# Altium integrated library NSC MiscPower.IntLib: 742 symbols (part 14 of 19)
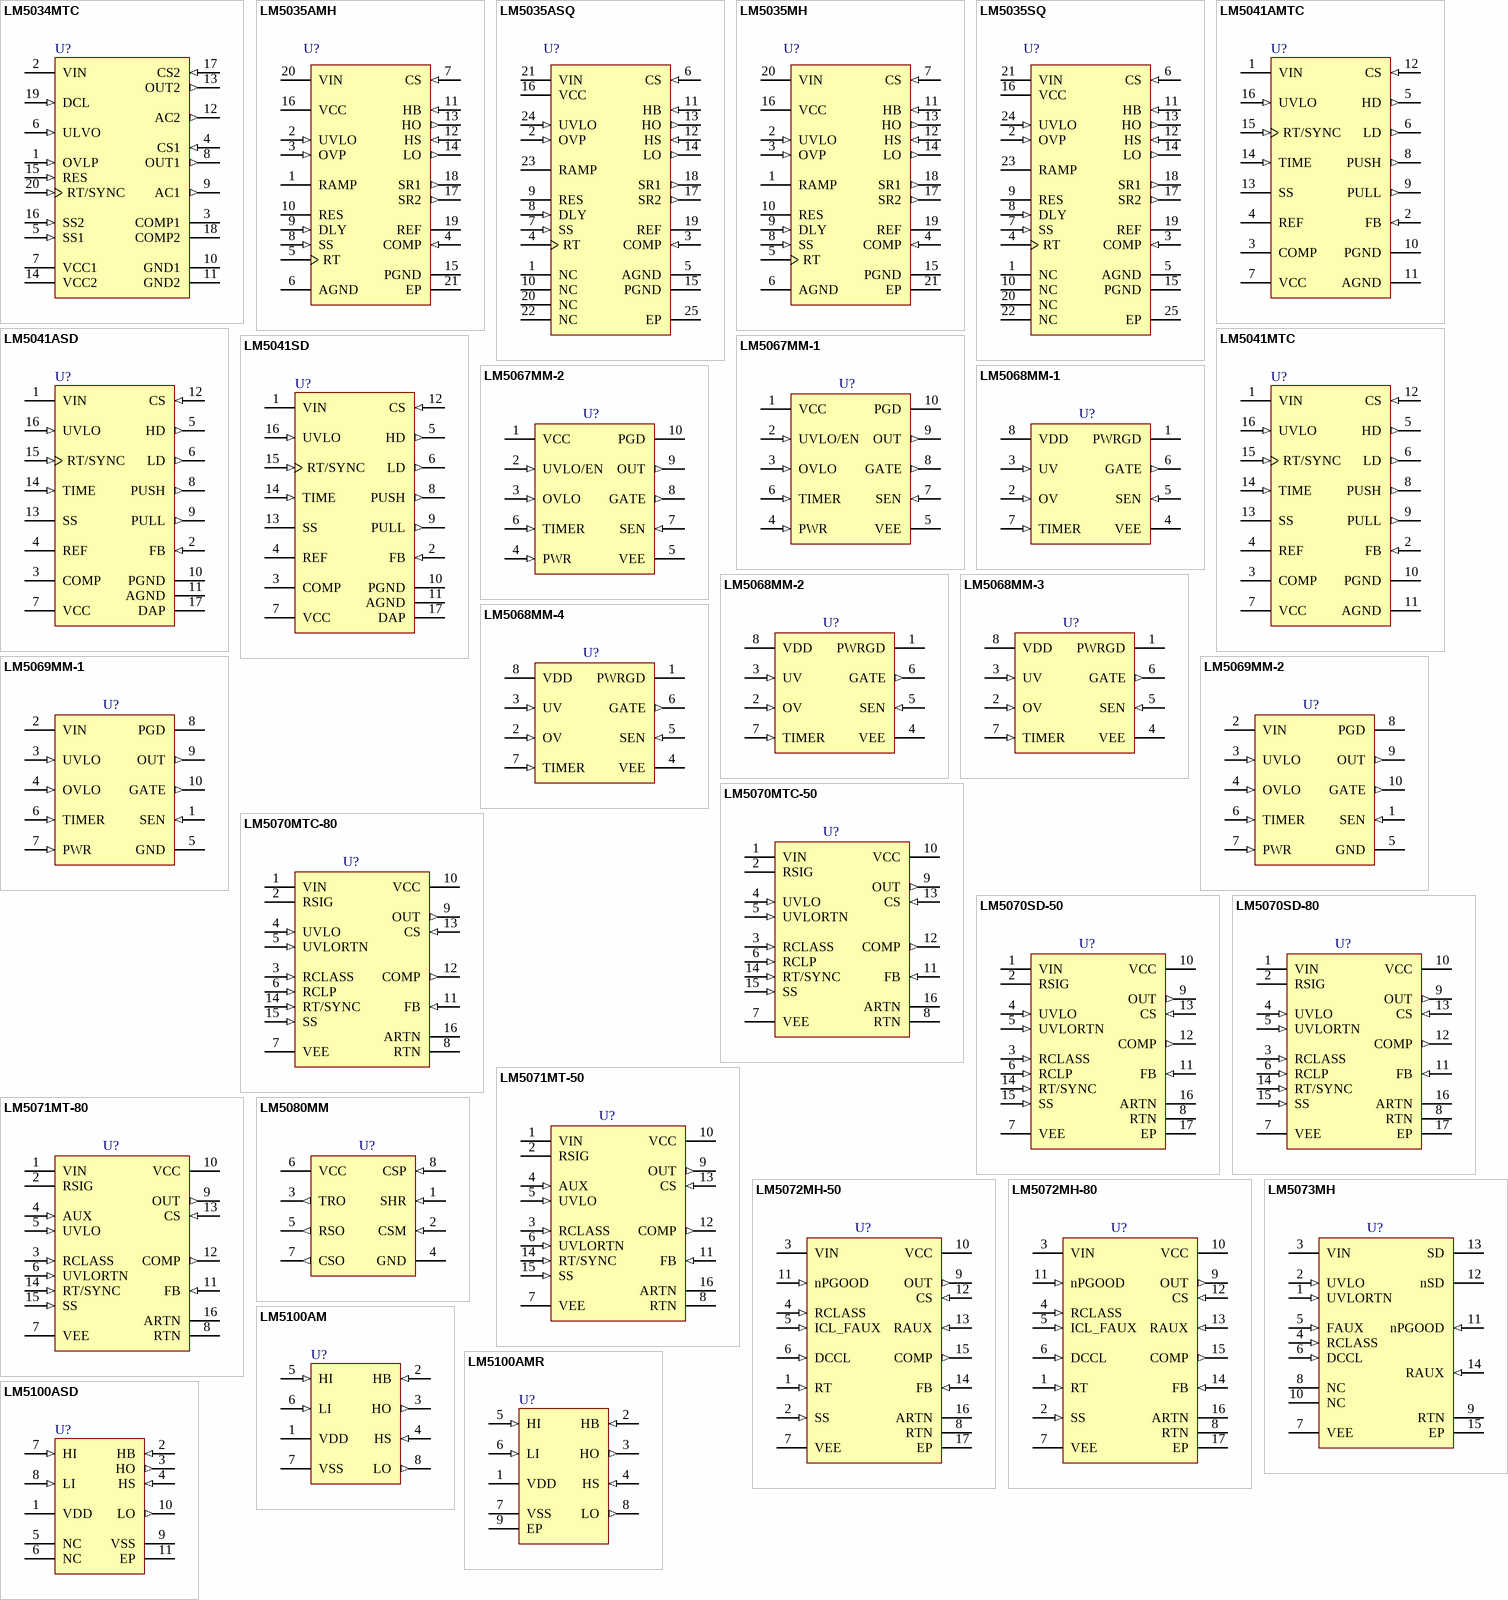
[diagram p38: symbols LM5034MTC to LM5100ASD]

## LM5072MH-50
designator U?
Integrated 100V Power Over Ethernet PD Interface and PWM Controller with Aux Support; PartNumber: LM5072MH-50; Manufacturer: National Semiconductor; CompType: MiscPower; PackageTopMarking: NSUZXYTT*LM5072*MH-50; PowerWise: Y; FirstPublished: 4-Dec-2008; DatasheetVersion: Oct-2007; PackageVersion: revA, Apr-2003; PackageReference: MXA16A; Publisher: Altium Limited; PackageDescription: Molded TSSOP, Jedec, Exposed Pad, 5.0 x 4.4 x 0.9mm Body,16 Lead, 0.65mm Pitch; RoHS: Y; PinCount: 16; DigiKeyPartNumber: LM5072MH-50-ND; Code_JEDEC: MO-153-ABT; ComponentLink1Description: LM5072 Datasheet; ComponentLink1URL: http://www.national.com/ds/LM/LM5072.pdf; ComponentLink2Description: LM5072 Web Page; ComponentLink2URL: http://www.national.com/pf/LM/LM5072.html; ComponentLink3Description: MXA16A Package Page; ComponentLink3URL: http://www.national.com/packaging/folders/mxa16a.html
footprint MXA16A_N (TSOP, 16-Leads, Body 5x4.4mm, Pitch 0.65mm, Exposed Pad, IPC Medium Density)
footprint MXA16A_L (TSOP, 16-Leads, Body 5x4.4mm, Pitch 0.65mm, Exposed Pad, IPC High Density)
footprint MXA16A_M (TSOP, 16-Leads, Body 5x4.4mm, Pitch 0.65mm, Exposed Pad, IPC Low Density)
pins: 1 RT (in) "PWM controller oscillator frequency programming pin.", 2 SS (in) "Soft-start programming pin.", 3 VIN (power) "Positive supply pin for the PD interface and the internal PWM controller start-up regulator.", 4 RCLASS (in) "PD classification programming pin.", 5 ICL_FAUX (in) "Inrush current limit programming pin; also the front auxiliary power enable pin.", 6 DCCL (in) "PD interface DC current limit programming pin.", 7 VEE (power) "Negative supply pin for PD interface; connected to PoE and/or front auxiliary power return path.", 8 RTN (power) "PWM controller power return.", 9 OUT (out) "PWM controller gate driver output pin.", 10 VCC (power) "PWM controller start-up regulator output pin.", 11 nPGOOD (in) "PD interface Power Good indicator and delay timer pin; active low state indicates PoE interface is in normal operation.", 12 CS (in) "PWM controller current sense input pin.", 13 RAUX (in) "Rear auxiliary power enable pin; can be programmed for auxiliary power dominance over PoE power.", 14 FB (in) "PWM controller voltage feedback pin and inverting input of the internal error amplifier.", 15 COMP (out) "Output of the internal error amplifier and control input to the PWM comparator.", 16 ARTN (power) "PWM controller reference ground pin.", 17 EP (power) "Exposed metal pad on the underside of the device."

## LM5072MH-80
designator U?
Integrated 100V Power Over Ethernet PD Interface and PWM Controller with Aux Support; PartNumber: LM5072MH-80; Manufacturer: National Semiconductor; CompType: MiscPower; PackageTopMarking: NSUZXYTT*LM5072*MH-80; PowerWise: Y; FirstPublished: 4-Dec-2008; DatasheetVersion: Oct-2007; PackageVersion: revA, Apr-2003; PackageReference: MXA16A; Publisher: Altium Limited; PackageDescription: Molded TSSOP, Jedec, Exposed Pad, 5.0 x 4.4 x 0.9mm Body,16 Lead, 0.65mm Pitch; RoHS: O; PinCount: 16; DigiKeyPartNumber: LM5072MH-80-ND; Code_JEDEC: MO-153-ABT; ComponentLink1Description: LM5072 Datasheet; ComponentLink1URL: http://www.national.com/ds/LM/LM5072.pdf; ComponentLink2Description: LM5072 Web Page; ComponentLink2URL: http://www.national.com/pf/LM/LM5072.html; ComponentLink3Description: MXA16A Package Page; ComponentLink3URL: http://www.national.com/packaging/folders/mxa16a.html
footprint MXA16A_N (TSOP, 16-Leads, Body 5x4.4mm, Pitch 0.65mm, Exposed Pad, IPC Medium Density)
footprint MXA16A_L (TSOP, 16-Leads, Body 5x4.4mm, Pitch 0.65mm, Exposed Pad, IPC High Density)
footprint MXA16A_M (TSOP, 16-Leads, Body 5x4.4mm, Pitch 0.65mm, Exposed Pad, IPC Low Density)
pins: 1 RT (in) "PWM controller oscillator frequency programming pin.", 2 SS (in) "Soft-start programming pin.", 3 VIN (power) "Positive supply pin for the PD interface and the internal PWM controller start-up regulator.", 4 RCLASS (in) "PD classification programming pin.", 5 ICL_FAUX (in) "Inrush current limit programming pin; also the front auxiliary power enable pin.", 6 DCCL (in) "PD interface DC current limit programming pin.", 7 VEE (power) "Negative supply pin for PD interface; connected to PoE and/or front auxiliary power return path.", 8 RTN (power) "PWM controller power return.", 9 OUT (out) "PWM controller gate driver output pin.", 10 VCC (power) "PWM controller start-up regulator output pin.", 11 nPGOOD (in) "PD interface Power Good indicator and delay timer pin; active low state indicates PoE interface is in normal operation.", 12 CS (in) "PWM controller current sense input pin.", 13 RAUX (in) "Rear auxiliary power enable pin; can be programmed for auxiliary power dominance over PoE power.", 14 FB (in) "PWM controller voltage feedback pin and inverting input of the internal error amplifier.", 15 COMP (out) "Output of the internal error amplifier and control input to the PWM comparator.", 16 ARTN (power) "PWM controller reference ground pin.", 17 EP (power) "Exposed metal pad on the underside of the device."

## LM5073MH
designator U?
100V Power Over Ethernet PD Interface with Aux Support; PartNumber: LM5073MH; Manufacturer: National Semiconductor; CompType: MiscPower; PackageTopMarking: NSUZXYTT*LM5073*MH; PowerWise: Y; FirstPublished: 4-Dec-2008; DatasheetVersion: Mar-2007; PackageVersion: revA, Feb-2003; PackageReference: MXA14A; Publisher: Altium Limited; PackageDescription: Molded TSSOP, JEDEC, Exposed Pad, 5.0 x 4.4 x 0.9mm Body, 14 Lead, 0.65mm Pitch; RoHS: Y; PinCount: 14; DigiKeyPartNumber: LM5073MH-ND; Code_JEDEC: MO-153-ABT-1; ComponentLink1Description: LM5073 Datasheet; ComponentLink1URL: http://www.national.com/ds/LM/LM5073.pdf; ComponentLink2Description: LM5073 Web Page; ComponentLink2URL: http://www.national.com/pf/LM/LM5073.html; ComponentLink3Description: MXA14A Package Page; ComponentLink3URL: http://www.national.com/packaging/folders/mxa14a.html
footprint MXA14A_N (TSOP, 14-Leads, Body 5x4.4mm, Pitch 0.65mm, Exposed Pad, IPC Medium Density)
footprint MXA14A_L (TSOP, 14-Leads, Body 5x4.4mm, Pitch 0.65mm, Exposed Pad, IPC High Density)
footprint MXA14A_M (TSOP, 14-Leads, Body 5x4.4mm, Pitch 0.65mm, Exposed Pad, IPC Low Density)
pins: 1 UVLORTN (in) "Return for the external UVLO programming resistor divider.", 2 UVLO (in) "Line under-voltage lockout programming pin.", 3 VIN (power) "Positive supply pin for the PD interface and the DC-DC converter interface.", 4 RCLASS (in) "PD classification programming pin.", 5 FAUX (in) "Front auxiliary power enable pin.", 6 DCCL (in) "PD interface DC current limit programming pin.", 7 VEE (power) "Negative supply pin for PD interface; connected to PoE and/or front auxiliary power return path.", 8 NC "No internal connection.", 9 RTN (power) "DC-DC converter power return.", 10 NC "No internal connection.", 11 nPGOOD (in) "PD interface Power Good indicator and delay timer pin.", 12 nSD (oc) "Open drain, active low shut down signal to the DC-DC converter.", 13 SD (oc) "Open drain, active high shut down signal to the DC-DC converter.", 14 RAUX (in) "Rear auxiliary power enable pin, and dominant/non-dominant selection.", 15 EP (power) "Exposed metal pad on the underside of the device."

## LM5080MM
designator U?
Modular Current Sharing Controller; PartNumber: LM5080MM; Manufacturer: National Semiconductor; CompType: MiscPower; PackageTopMarking: ZXTT*SHUB; PowerWise: N; FirstPublished: 4-Dec-2008; DatasheetVersion: Jan-2006; PackageVersion: revF, Apr-2008; PackageReference: MUA08A; Publisher: Altium Limited; PackageDescription: MINI SOIC, .118 x .118 x .034in, 8 Lead, .0256in Pitch; RoHS: Y; PinCount: 8; DigiKeyPartNumber: LM5080MMCT-ND; Code_JEDEC: MO-187-AA; ComponentLink1Description: LM5080 Datasheet; ComponentLink1URL: http://www.national.com/ds/LM/LM5080.pdf; ComponentLink2Description: LM5080 Web Page; ComponentLink2URL: http://www.national.com/pf/LM/LM5080.html; ComponentLink3Description: MUA08A Package Page; ComponentLink3URL: http://www.national.com/packaging/folders/mua08a.html
footprint MUA08A_N (TSOP, 8-Leads, Body 3x3mm, Pitch 0.65mm, IPC Medium Density)
footprint MUA08A_L (TSOP, 8-Leads, Body 3x3mm, Pitch 0.65mm, IPC High Density)
footprint MUA08A_M (TSOP, 8-Leads, Body 3x3mm, Pitch 0.65mm, IPC Low Density)
pins: 1 SHR (in), 2 CSM (in), 3 TRO (out), 4 GND (power), 5 RSO (out), 6 VCC (power), 7 CSO (out), 8 CSP (in)

## LM5100AM
designator U?
3A High Voltage High-Side and Low-Side Gate Driver; PartNumber: LM5100AM; Manufacturer: National Semiconductor; CompType: MiscPower; PackageTopMarking: NSZXTT*L5100*AM; PowerWise: N; FirstPublished: 4-Dec-2008; DatasheetVersion: Jun-2009; PackageVersion: revL, Sep-2006; PackageReference: M08A; Publisher: Altium Limited; PackageDescription: SOIC Narrow, 4.9 x 3.9 x 1.45mm, 8 Lead, 1.27mm Pitch; RoHS: Y; PinCount: 8; DigiKeyPartNumber: LM5100AM-ND; Code_JEDEC: MS-012-AA; Code_IPC: SOIC127P600-8; ComponentLink1Description: LM5100A Datasheet; ComponentLink1URL: http://www.national.com/ds/LM/LM5100A.pdf; ComponentLink2Description: LM5100A Web Page; ComponentLink2URL: http://www.national.com/pf/LM/LM5100A.html; ComponentLink3Description: M08A Package Page; ComponentLink3URL: http://www.national.com/packaging/folders/m08a.html
footprint M08A_N (SOIC, 8-Leads, Body 4.9x3.9mm, Pitch 1.27mm, IPC Medium Density)
footprint M08A_L (SOIC, 8-Leads, Body 4.9x3.9mm, Pitch 1.27mm, IPC High Density)
footprint M08A_M (SOIC, 8-Leads, Body 4.9x3.9mm, Pitch 1.27mm, IPC Low Density)
pins: 1 VDD (power), 2 HB (in), 3 HO (out), 4 HS (in), 5 HI (in), 6 LI (in), 7 VSS (power), 8 LO (out)

## LM5100AMR
designator U?
3A High Voltage High-Side and Low-Side Gate Driver; PartNumber: LM5100AMR; Manufacturer: National Semiconductor; CompType: MiscPower; PackageTopMarking: NSXYTT*L5100*AMR; PowerWise: N; FirstPublished: 29-May-2009; DatasheetVersion: Jun-2009; PackageVersion: revD, Dec-2007; PackageReference: MRA08A; Publisher: Altium Limited; PackageDescription: Molded, PSOP .193 x .154 x .058in, 8 Lead, .050in Pitch; RoHS: Y; PinCount: 8; Code_JEDEC: MS-012-AA; ComponentLink1Description: LM5100A Datasheet; ComponentLink1URL: http://www.national.com/ds/LM/LM5100A.pdf; ComponentLink2Description: LM5100A Web Page; ComponentLink2URL: http://www.national.com/pf/LM/LM5100A.html; ComponentLink3Description: MRA08A Package Page; ComponentLink3URL: http://www.national.com/packaging/folders/mra08a.html
footprint MRA08A_N (SOIC, 8-Leads, Body 4.9x3.9mm, Pitch 1.27mm, Exposed Pad, IPC Medium Density)
footprint MRA08A_L (SOIC, 8-Leads, Body 4.9x3.9mm, Pitch 1.27mm, Exposed Pad, IPC High Density)
footprint MRA08A_M (SOIC, 8-Leads, Body 4.9x3.9mm, Pitch 1.27mm, Exposed Pad, IPC Low Density)
pins: 1 VDD (power), 2 HB (in), 3 HO (out), 4 HS (in), 5 HI (in), 6 LI (in), 7 VSS (power), 8 LO (out), 9 EP (power)

## LM5100ASD
designator U?
3A High Voltage High-Side and Low-Side Gate Driver; PartNumber: LM5100ASD; Manufacturer: National Semiconductor; CompType: MiscPower; PackageTopMarking: NS*UZXYTT*5100ASD; PowerWise: N; FirstPublished: 4-Dec-2008; DatasheetVersion: Jun-2009; PackageVersion: revA, May-2003; PackageReference: SDC10A; Publisher: Altium Limited; PackageDescription: LLP, Plastic, Dual, 4 x 4 x 0.8mm Body, 10 Lead, 0.8mm Pitch, No Pullback; RoHS: Y; PinCount: 10; DigiKeyPartNumber: LM5100ASDCT-ND; ComponentLink1Description: LM5100A Datasheet; ComponentLink1URL: http://www.national.com/ds/LM/LM5100A.pdf; ComponentLink2Description: LM5100A Web Page; ComponentLink2URL: http://www.national.com/pf/LM/LM5100A.html; ComponentLink3Description: SDC10A Package Page; ComponentLink3URL: http://www.national.com/packaging/folders/sdc10a.html
footprint SDC10A (SON, 10-Leads, Body 4x4 mm, Pitch 0.8mm, NSC Recommended)
pins: 1 VDD (power), 2 HB (in), 3 HO (out), 4 HS (in), 5 NC, 6 NC, 7 HI (in), 8 LI (in), 9 VSS (power), 10 LO (out), 11 EP (power)

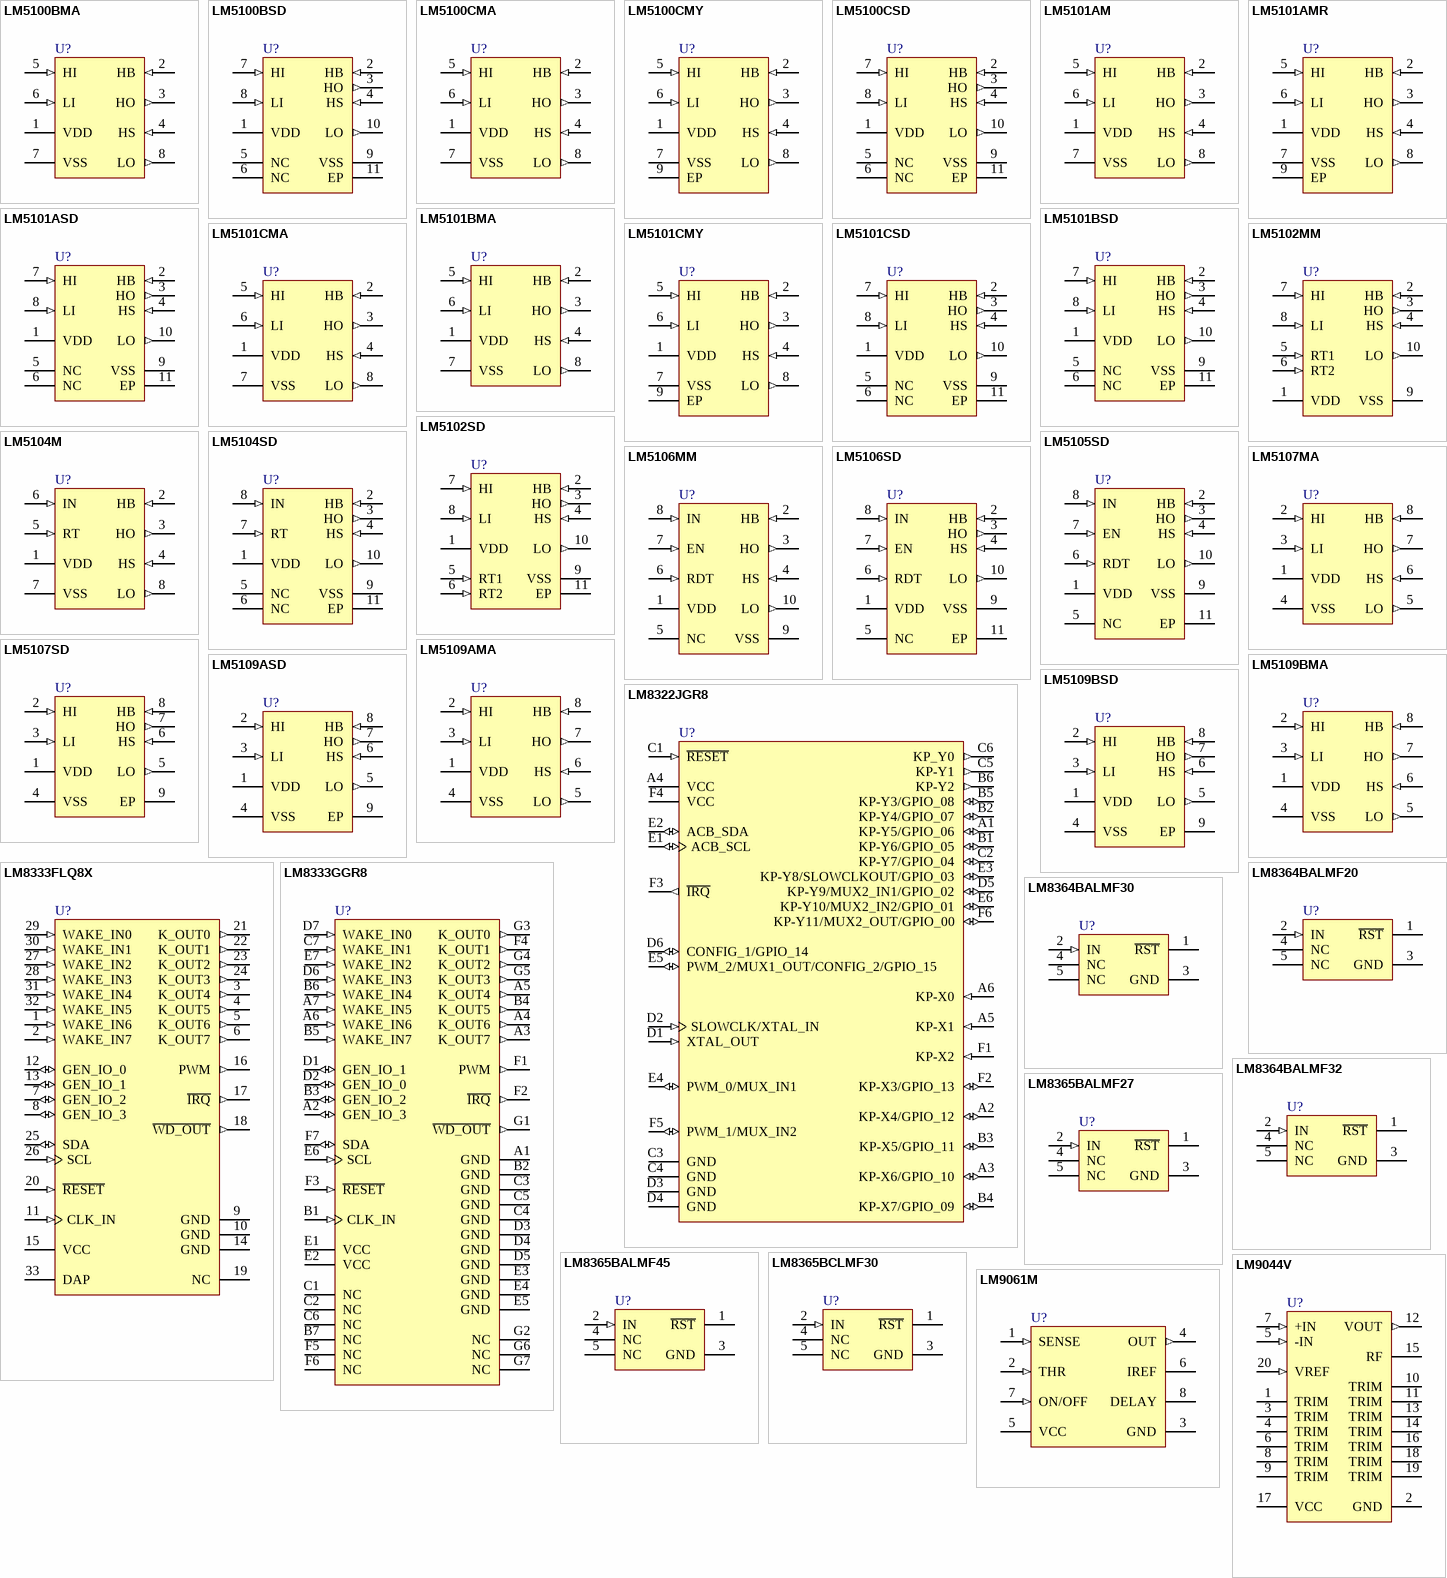
[diagram p16: symbols LM5100BMA to LM9061M]

## LM5100BMA
designator U?
2A High Voltage High-Side and Low-Side Gate Driver; PartNumber: LM5100BMA; Manufacturer: National Semiconductor; CompType: MiscPower; PackageTopMarking: NSZXTT*L5100*BMA; PowerWise: N; FirstPublished: 4-Dec-2008; DatasheetVersion: Nov-2006; PackageVersion: revL, Sep-2006; PackageReference: M08A; Publisher: Altium Limited; PackageDescription: SOIC Narrow, 4.9 x 3.9 x 1.45mm, 8 Lead, 1.27mm Pitch; RoHS: Y; PinCount: 8; DigiKeyPartNumber: LM5100BMA-ND; Code_JEDEC: MS-012-AA; Code_IPC: SOIC127P600-8; ComponentLink1Description: LM5100B Datasheet; ComponentLink1URL: http://www.national.com/ds/LM/LM5100B.pdf; ComponentLink2Description: LM5100B Web Page; ComponentLink2URL: http://www.national.com/pf/LM/LM5100B.html; ComponentLink3Description: M08A Package Page; ComponentLink3URL: http://www.national.com/packaging/folders/m08a.html
footprint M08A_N (SOIC, 8-Leads, Body 4.9x3.9mm, Pitch 1.27mm, IPC Medium Density)
footprint M08A_L (SOIC, 8-Leads, Body 4.9x3.9mm, Pitch 1.27mm, IPC High Density)
footprint M08A_M (SOIC, 8-Leads, Body 4.9x3.9mm, Pitch 1.27mm, IPC Low Density)
pins: 1 VDD (power), 2 HB (in), 3 HO (out), 4 HS (in), 5 HI (in), 6 LI (in), 7 VSS (power), 8 LO (out)

## LM5100BSD
designator U?
2A High Voltage High-Side and Low-Side Gate Driver; PartNumber: LM5100BSD; Manufacturer: National Semiconductor; CompType: MiscPower; PackageTopMarking: NS*UZXYTT*5100BSD; PowerWise: N; FirstPublished: 4-Dec-2008; DatasheetVersion: Nov-2006; PackageVersion: revA, May-2003; PackageReference: SDC10A; Publisher: Altium Limited; PackageDescription: LLP, Plastic, Dual, 4 x 4 x 0.8mm Body, 10 Lead, 0.8mm Pitch, No Pullback; RoHS: Y; PinCount: 10; DigiKeyPartNumber: LM5100BSDCT-ND; ComponentLink1Description: LM5100B Datasheet; ComponentLink1URL: http://www.national.com/ds/LM/LM5100B.pdf; ComponentLink2Description: LM5100B Web Page; ComponentLink2URL: http://www.national.com/pf/LM/LM5100B.html; ComponentLink3Description: SDC10A Package Page; ComponentLink3URL: http://www.national.com/packaging/folders/sdc10a.html
footprint SDC10A (SON, 10-Leads, Body 4x4 mm, Pitch 0.8mm, NSC Recommended)
pins: 1 VDD (power), 2 HB (in), 3 HO (out), 4 HS (in), 5 NC, 6 NC, 7 HI (in), 8 LI (in), 9 VSS (power), 10 LO (out), 11 EP (power)

## LM5100CMA
designator U?
1A High Voltage High-Side and Low-Side Gate Driver; PartNumber: LM5100CMA; Manufacturer: National Semiconductor; CompType: MiscPower; PackageTopMarking: NSZXTT*L5100*CMA; PowerWise: N; FirstPublished: 4-Dec-2008; DatasheetVersion: Nov-2006; PackageVersion: revL, Sep-2006; PackageReference: M08A; Publisher: Altium Limited; PackageDescription: SOIC Narrow, 4.9 x 3.9 x 1.45mm, 8 Lead, 1.27mm Pitch; RoHS: Y; PinCount: 8; DigiKeyPartNumber: LM5100CMA-ND; Code_JEDEC: MS-012-AA; Code_IPC: SOIC127P600-8; ComponentLink1Description: LM5100C Datasheet; ComponentLink1URL: http://www.national.com/ds/LM/LM5100C.pdf; ComponentLink2Description: LM5100C Web Page; ComponentLink2URL: http://www.national.com/pf/LM/LM5100C.html; ComponentLink3Description: M08A Package Page; ComponentLink3URL: http://www.national.com/packaging/folders/m08a.html
footprint M08A_N (SOIC, 8-Leads, Body 4.9x3.9mm, Pitch 1.27mm, IPC Medium Density)
footprint M08A_L (SOIC, 8-Leads, Body 4.9x3.9mm, Pitch 1.27mm, IPC High Density)
footprint M08A_M (SOIC, 8-Leads, Body 4.9x3.9mm, Pitch 1.27mm, IPC Low Density)
pins: 1 VDD (power), 2 HB (in), 3 HO (out), 4 HS (in), 5 HI (in), 6 LI (in), 7 VSS (power), 8 LO (out)

## LM5100CMY
designator U?
1A High Voltage High-Side and Low-Side Gate Driver; PartNumber: LM5100CMY; Manufacturer: National Semiconductor; CompType: MiscPower; PackageTopMarking: ZXTT*SXCB; PowerWise: N; FirstPublished: 9-Oct-2009; DatasheetVersion: Jun-2009; PackageVersion: revA, Nov-2003; PackageReference: MUY08A; Publisher: Altium Limited; PackageDescription: Molded Mini-SO, Exposed Pad, .118 x .118 x .034in Body, 8 Lead, .0256in Pitch; RoHS: Y; PinCount: 8; DigiKeyPartNumber: LM5100CMYCT-ND; Code_JEDEC: MO-187-AA; ComponentLink1Description: LM5100C Datasheet; ComponentLink1URL: http://www.national.com/ds/LM/LM5100C.pdf; ComponentLink2Description: LM5100C Web Page; ComponentLink2URL: http://www.national.com/pf/LM/LM5100C.html; ComponentLink3Description: MUY08A Package Page; ComponentLink3URL: http://www.national.com/packaging/folders/muy08a.html
footprint MUY08A_N (TSOP, 8-Leads, Body 3x3mm, Pitch 0.65mm, Exposed Pad, IPC Medium Density)
footprint MUY08A_L (TSOP, 8-Leads, Body 3x3mm, Pitch 0.65mm, Exposed Pad, IPC High Density)
footprint MUY08A_M (TSOP, 8-Leads, Body 3x3mm, Pitch 0.65mm, Exposed Pad, IPC Low Density)
pins: 1 VDD (power), 2 HB (in), 3 HO (out), 4 HS (in), 5 HI (in), 6 LI (in), 7 VSS (power), 8 LO (out), 9 EP (power)

## LM5100CSD
designator U?
1A High Voltage High-Side and Low-Side Gate Driver; PartNumber: LM5100CSD; Manufacturer: National Semiconductor; CompType: MiscPower; PackageTopMarking: NS*UZXYTT*5100CSD; PowerWise: N; FirstPublished: 4-Dec-2008; DatasheetVersion: Nov-2006; PackageVersion: revA, May-2003; PackageReference: SDC10A; Publisher: Altium Limited; PackageDescription: LLP, Plastic, Dual, 4 x 4 x 0.8mm Body, 10 Lead, 0.8mm Pitch, No Pullback; RoHS: Y; PinCount: 10; DigiKeyPartNumber: LM5100CSDCT-ND; ComponentLink1Description: LM5100C Datasheet; ComponentLink1URL: http://www.national.com/ds/LM/LM5100C.pdf; ComponentLink2Description: LM5100C Web Page; ComponentLink2URL: http://www.national.com/pf/LM/LM5100C.html; ComponentLink3Description: SDC10A Package Page; ComponentLink3URL: http://www.national.com/packaging/folders/sdc10a.html
footprint SDC10A (SON, 10-Leads, Body 4x4 mm, Pitch 0.8mm, NSC Recommended)
pins: 1 VDD (power), 2 HB (in), 3 HO (out), 4 HS (in), 5 NC, 6 NC, 7 HI (in), 8 LI (in), 9 VSS (power), 10 LO (out), 11 EP (power)

## LM5101AM
designator U?
3A High Voltage High-Side and Low-Side Gate Driver; PartNumber: LM5101AM; Manufacturer: National Semiconductor; CompType: MiscPower; PackageTopMarking: NSZXTT*L5101*AM; PowerWise: N; FirstPublished: 4-Dec-2008; DatasheetVersion: Jun-2009; PackageVersion: revL, Sep-2006; PackageReference: M08A; Publisher: Altium Limited; PackageDescription: SOIC Narrow, 4.9 x 3.9 x 1.45mm, 8 Lead, 1.27mm Pitch; RoHS: Y; PinCount: 8; DigiKeyPartNumber: LM5101AM-ND; Code_JEDEC: MS-012-AA; Code_IPC: SOIC127P600-8; ComponentLink1Description: LM5101A Datasheet; ComponentLink1URL: http://www.national.com/ds/LM/LM5100A.pdf; ComponentLink2Description: LM5101A Web Page; ComponentLink2URL: http://www.national.com/pf/LM/LM5101A.html; ComponentLink3Description: M08A Package Page; ComponentLink3URL: http://www.national.com/packaging/folders/m08a.html
footprint M08A_N (SOIC, 8-Leads, Body 4.9x3.9mm, Pitch 1.27mm, IPC Medium Density)
footprint M08A_L (SOIC, 8-Leads, Body 4.9x3.9mm, Pitch 1.27mm, IPC High Density)
footprint M08A_M (SOIC, 8-Leads, Body 4.9x3.9mm, Pitch 1.27mm, IPC Low Density)
pins: 1 VDD (power), 2 HB (in), 3 HO (out), 4 HS (in), 5 HI (in), 6 LI (in), 7 VSS (power), 8 LO (out)

## LM5101AMR
designator U?
3A High Voltage High-Side and Low-Side Gate Driver; PartNumber: LM5101AMR; Manufacturer: National Semiconductor; CompType: MiscPower; PackageTopMarking: NSXYTT*L5101*AMR; PowerWise: N; FirstPublished: 29-May-2009; DatasheetVersion: Jun-2009; PackageVersion: revD, Dec-2007; PackageReference: MRA08A; Publisher: Altium Limited; PackageDescription: Molded, PSOP .193 x .154 x .058in, 8 Lead, .050in Pitch; RoHS: Y; PinCount: 8; Code_JEDEC: MS-012-AA; ComponentLink1Description: LM5101A Datasheet; ComponentLink1URL: http://www.national.com/ds/LM/LM5100A.pdf; ComponentLink2Description: LM5101A Web Page; ComponentLink2URL: http://www.national.com/pf/LM/LM5101A.html; ComponentLink3Description: MRA08A Package Page; ComponentLink3URL: http://www.national.com/packaging/folders/mra08a.html
footprint MRA08A_N (SOIC, 8-Leads, Body 4.9x3.9mm, Pitch 1.27mm, Exposed Pad, IPC Medium Density)
footprint MRA08A_L (SOIC, 8-Leads, Body 4.9x3.9mm, Pitch 1.27mm, Exposed Pad, IPC High Density)
footprint MRA08A_M (SOIC, 8-Leads, Body 4.9x3.9mm, Pitch 1.27mm, Exposed Pad, IPC Low Density)
pins: 1 VDD (power), 2 HB (in), 3 HO (out), 4 HS (in), 5 HI (in), 6 LI (in), 7 VSS (power), 8 LO (out), 9 EP (power)

## LM5101ASD
designator U?
3A High Voltage High-Side and Low-Side Gate Driver; PartNumber: LM5101ASD; Manufacturer: National Semiconductor; CompType: MiscPower; PackageTopMarking: NS*UZXYTT*5101ASD; PowerWise: N; FirstPublished: 4-Dec-2008; DatasheetVersion: Jun-2009; PackageVersion: revA, May-2003; PackageReference: SDC10A; Publisher: Altium Limited; PackageDescription: LLP, Plastic, Dual, 4 x 4 x 0.8mm Body, 10 Lead, 0.8mm Pitch, No Pullback; RoHS: O; PinCount: 10; DigiKeyPartNumber: LM5101ASDCT-ND; ComponentLink1Description: LM5101A Datasheet; ComponentLink1URL: http://www.national.com/ds/LM/LM5100A.pdf; ComponentLink2Description: LM5101A Web Page; ComponentLink2URL: http://www.national.com/pf/LM/LM5101A.html; ComponentLink3Description: SDC10A Package Page; ComponentLink3URL: http://www.national.com/packaging/folders/sdc10a.html
footprint SDC10A (SON, 10-Leads, Body 4x4 mm, Pitch 0.8mm, NSC Recommended)
pins: 1 VDD (power), 2 HB (in), 3 HO (out), 4 HS (in), 5 NC, 6 NC, 7 HI (in), 8 LI (in), 9 VSS (power), 10 LO (out), 11 EP (power)

## LM5101BMA
designator U?
2A High Voltage High-Side and Low-Side Gate Driver; PartNumber: LM5101BMA; Manufacturer: National Semiconductor; CompType: MiscPower; PackageTopMarking: NSZXTT*L5101*BMA; PowerWise: N; FirstPublished: 4-Dec-2008; DatasheetVersion: Nov-2006; PackageVersion: revL, Sep-2006; PackageReference: M08A; Publisher: Altium Limited; PackageDescription: SOIC Narrow, 4.9 x 3.9 x 1.45mm, 8 Lead, 1.27mm Pitch; RoHS: Y; PinCount: 8; DigiKeyPartNumber: LM5101BMA-ND; Code_JEDEC: MS-012-AA; Code_IPC: SOIC127P600-8; ComponentLink1Description: LM5101B Datasheet; ComponentLink1URL: http://www.national.com/ds/LM/LM5101B.pdf; ComponentLink2Description: LM5101B Web Page; ComponentLink2URL: http://www.national.com/pf/LM/LM5101B.html; ComponentLink3Description: M08A Package Page; ComponentLink3URL: http://www.national.com/packaging/folders/m08a.html
footprint M08A_N (SOIC, 8-Leads, Body 4.9x3.9mm, Pitch 1.27mm, IPC Medium Density)
footprint M08A_L (SOIC, 8-Leads, Body 4.9x3.9mm, Pitch 1.27mm, IPC High Density)
footprint M08A_M (SOIC, 8-Leads, Body 4.9x3.9mm, Pitch 1.27mm, IPC Low Density)
pins: 1 VDD (power), 2 HB (in), 3 HO (out), 4 HS (in), 5 HI (in), 6 LI (in), 7 VSS (power), 8 LO (out)

## LM5101BSD
designator U?
2A High Voltage High-Side and Low-Side Gate Driver; PartNumber: LM5101BSD; Manufacturer: National Semiconductor; CompType: MiscPower; PackageTopMarking: NS*UZXYTT*5101BSD; PowerWise: N; FirstPublished: 4-Dec-2008; DatasheetVersion: Nov-2006; PackageVersion: revA, May-2003; PackageReference: SDC10A; Publisher: Altium Limited; PackageDescription: LLP, Plastic, Dual, 4 x 4 x 0.8mm Body, 10 Lead, 0.8mm Pitch, No Pullback; RoHS: Y; PinCount: 10; DigiKeyPartNumber: LM5101BSDCT-ND; ComponentLink1Description: LM5101B Datasheet; ComponentLink1URL: http://www.national.com/ds/LM/LM5101B.pdf; ComponentLink2Description: LM5101B Web Page; ComponentLink2URL: http://www.national.com/pf/LM/LM5101B.html; ComponentLink3Description: SDC10A Package Page; ComponentLink3URL: http://www.national.com/packaging/folders/sdc10a.html
footprint SDC10A (SON, 10-Leads, Body 4x4 mm, Pitch 0.8mm, NSC Recommended)
pins: 1 VDD (power), 2 HB (in), 3 HO (out), 4 HS (in), 5 NC, 6 NC, 7 HI (in), 8 LI (in), 9 VSS (power), 10 LO (out), 11 EP (power)

## LM5101CMA
designator U?
1A High Voltage High-Side and Low-Side Gate Driver; PartNumber: LM5101CMA; Manufacturer: National Semiconductor; CompType: MiscPower; PackageTopMarking: NSZXTT*L5101*CMA; PowerWise: N; FirstPublished: 4-Dec-2008; DatasheetVersion: Nov-2006; PackageVersion: revL, Sep-2006; PackageReference: M08A; Publisher: Altium Limited; PackageDescription: SOIC Narrow, 4.9 x 3.9 x 1.45mm, 8 Lead, 1.27mm Pitch; RoHS: Y; PinCount: 8; DigiKeyPartNumber: LM5101CMA-ND; Code_JEDEC: MS-012-AA; Code_IPC: SOIC127P600-8; ComponentLink1Description: LM5101C Datasheet; ComponentLink1URL: http://www.national.com/ds/LM/LM5101C.pdf; ComponentLink2Description: LM5101C Web Page; ComponentLink2URL: http://www.national.com/pf/LM/LM5101C.html; ComponentLink3Description: M08A Package Page; ComponentLink3URL: http://www.national.com/packaging/folders/m08a.html
footprint M08A_N (SOIC, 8-Leads, Body 4.9x3.9mm, Pitch 1.27mm, IPC Medium Density)
footprint M08A_L (SOIC, 8-Leads, Body 4.9x3.9mm, Pitch 1.27mm, IPC High Density)
footprint M08A_M (SOIC, 8-Leads, Body 4.9x3.9mm, Pitch 1.27mm, IPC Low Density)
pins: 1 VDD (power), 2 HB (in), 3 HO (out), 4 HS (in), 5 HI (in), 6 LI (in), 7 VSS (power), 8 LO (out)

## LM5101CMY
designator U?
1A High Voltage High-Side and Low-Side Gate Driver; PartNumber: LM5101CMY; Manufacturer: National Semiconductor; CompType: MiscPower; PackageTopMarking: ZXTT*SXDB; PowerWise: N; FirstPublished: 9-Oct-2009; DatasheetVersion: Jun-2009; PackageVersion: revA, Nov-2003; PackageReference: MUY08A; Publisher: Altium Limited; PackageDescription: Molded Mini-SO, Exposed Pad, .118 x .118 x .034in Body, 8 Lead, .0256in Pitch; RoHS: Y; PinCount: 8; DigiKeyPartNumber: LM5101CMY-ND; Code_JEDEC: MO-187-AA; ComponentLink1Description: LM5101C Datasheet; ComponentLink1URL: http://www.national.com/ds/LM/LM5101C.pdf; ComponentLink2Description: LM5101C Web Page; ComponentLink2URL: http://www.national.com/pf/LM/LM5101C.html; ComponentLink3Description: MUY08A Package Page; ComponentLink3URL: http://www.national.com/packaging/folders/muy08a.html
footprint MUY08A_N (TSOP, 8-Leads, Body 3x3mm, Pitch 0.65mm, Exposed Pad, IPC Medium Density)
footprint MUY08A_L (TSOP, 8-Leads, Body 3x3mm, Pitch 0.65mm, Exposed Pad, IPC High Density)
footprint MUY08A_M (TSOP, 8-Leads, Body 3x3mm, Pitch 0.65mm, Exposed Pad, IPC Low Density)
pins: 1 VDD (power), 2 HB (in), 3 HO (out), 4 HS (in), 5 HI (in), 6 LI (in), 7 VSS (power), 8 LO (out), 9 EP (power)

## LM5101CSD
designator U?
1A High Voltage High-Side and Low-Side Gate Driver; PartNumber: LM5101CSD; Manufacturer: National Semiconductor; CompType: MiscPower; PackageTopMarking: NS*UZXYTT*5101CSD; PowerWise: N; FirstPublished: 4-Dec-2008; DatasheetVersion: Nov-2006; PackageVersion: revA, May-2003; PackageReference: SDC10A; Publisher: Altium Limited; PackageDescription: LLP, Plastic, Dual, 4 x 4 x 0.8mm Body, 10 Lead, 0.8mm Pitch, No Pullback; RoHS: Y; PinCount: 10; DigiKeyPartNumber: LM5101CSDCT-ND; ComponentLink1Description: LM5101C Datasheet; ComponentLink1URL: http://www.national.com/ds/LM/LM5101C.pdf; ComponentLink2Description: LM5101C Web Page; ComponentLink2URL: http://www.national.com/pf/LM/LM5101C.html; ComponentLink3Description: SDC10A Package Page; ComponentLink3URL: http://www.national.com/packaging/folders/sdc10a.html
footprint SDC10A (SON, 10-Leads, Body 4x4 mm, Pitch 0.8mm, NSC Recommended)
pins: 1 VDD (power), 2 HB (in), 3 HO (out), 4 HS (in), 5 NC, 6 NC, 7 HI (in), 8 LI (in), 9 VSS (power), 10 LO (out), 11 EP (power)

## LM5102MM
designator U?
High Voltage Half-Bridge Gate Driver with Programmable Delay; PartNumber: LM5102MM; Manufacturer: National Semiconductor; CompType: MiscPower; PackageTopMarking: ZXTT*5102; PowerWise: N; FirstPublished: 4-Dec-2008; DatasheetVersion: Jan-2004; PackageVersion: revB, Jul-2003; PackageReference: MUB10A; Publisher: Altium Limited; PackageDescription: Mini-SO, Molded, .118 x .118 x .034in Body, 10 Lead, .0197in Pitch; RoHS: Y; PinCount: 10; DigiKeyPartNumber: LM5102MMCT-ND; Code_JEDEC: MO-187-BA; ComponentLink1Description: LM5102 Datasheet; ComponentLink1URL: http://www.national.com/ds/LM/LM5102.pdf; ComponentLink2Description: LM5102 Web Page; ComponentLink2URL: http://www.national.com/pf/LM/LM5102.html; ComponentLink3Description: MUB10A Package Page; ComponentLink3URL: http://www.national.com/packaging/folders/mub10a.html
footprint MUB10A_N (TSSOP, 10-Leads, Body 3x3mm, Pitch 0.5mm, IPC Medium Density)
footprint MUB10A_L (TSSOP, 10-Leads, Body 3x3mm, Pitch 0.5mm, IPC High Density)
footprint MUB10A_M (TSSOP, 10-Leads, Body 3x3mm, Pitch 0.5mm, IPC Low Density)
pins: 1 VDD (power), 2 HB (in), 3 HO (out), 4 HS (in), 5 RT1 (in), 6 RT2 (in), 7 HI (in), 8 LI (in), 9 VSS (power), 10 LO (out)

## LM5102SD
designator U?
High Voltage Half-Bridge Gate Driver with Programmable Delay; PartNumber: LM5102SD; Manufacturer: National Semiconductor; CompType: MiscPower; PackageTopMarking: NS*UZXYTT*5102SD; PowerWise: N; FirstPublished: 4-Dec-2008; DatasheetVersion: Jan-2004; PackageVersion: revA, May-2003; PackageReference: SDC10A; Publisher: Altium Limited; PackageDescription: LLP, Plastic, Dual, 4 x 4 x 0.8mm Body, 10 Lead, 0.8mm Pitch, No Pullback; RoHS: Y; PinCount: 10; DigiKeyPartNumber: LM5102SDCT-ND; ComponentLink1Description: LM5102 Datasheet; ComponentLink1URL: http://www.national.com/ds/LM/LM5102.pdf; ComponentLink2Description: LM5102 Web Page; ComponentLink2URL: http://www.national.com/pf/LM/LM5102.html; ComponentLink3Description: SDC10A Package Page; ComponentLink3URL: http://www.national.com/packaging/folders/sdc10a.html
footprint SDC10A (SON, 10-Leads, Body 4x4 mm, Pitch 0.8mm, NSC Recommended)
pins: 1 VDD (power), 2 HB (in), 3 HO (out), 4 HS (in), 5 RT1 (in), 6 RT2 (in), 7 HI (in), 8 LI (in), 9 VSS (power), 10 LO (out), 11 EP (power)

## LM5104M
designator U?
High Voltage Half-Bridge Gate Driver with Adaptive Delay; PartNumber: LM5104M; Manufacturer: National Semiconductor; CompType: MiscPower; PackageTopMarking: NSZXTT*5104*M; PowerWise: N; FirstPublished: 4-Dec-2008; DatasheetVersion: Feb-2005; PackageVersion: revL, Sep-2006; PackageReference: M08A; Publisher: Altium Limited; PackageDescription: SOIC Narrow, 4.9 x 3.9 x 1.45mm, 8 Lead, 1.27mm Pitch; RoHS: Y; PinCount: 8; DigiKeyPartNumber: LM5104M-ND; Code_JEDEC: MS-012-AA; Code_IPC: SOIC127P600-8; ComponentLink1Description: LM5104 Datasheet; ComponentLink1URL: http://www.national.com/ds/LM/LM5104.pdf; ComponentLink2Description: LM5104 Web Page; ComponentLink2URL: http://www.national.com/pf/LM/LM5104.html; ComponentLink3Description: M08A Package Page; ComponentLink3URL: http://www.national.com/packaging/folders/m08a.html
footprint M08A_N (SOIC, 8-Leads, Body 4.9x3.9mm, Pitch 1.27mm, IPC Medium Density)
footprint M08A_L (SOIC, 8-Leads, Body 4.9x3.9mm, Pitch 1.27mm, IPC High Density)
footprint M08A_M (SOIC, 8-Leads, Body 4.9x3.9mm, Pitch 1.27mm, IPC Low Density)
pins: 1 VDD (power), 2 HB (in), 3 HO (out), 4 HS (in), 5 RT (in), 6 IN (in), 7 VSS (power), 8 LO (out)

## LM5104SD
designator U?
High Voltage Half-Bridge Gate Driver with Adaptive Delay; PartNumber: LM5104SD; Manufacturer: National Semiconductor; CompType: MiscPower; PackageTopMarking: NS*UZXYTT*5104SD; PowerWise: N; FirstPublished: 4-Dec-2008; DatasheetVersion: Feb-2005; PackageVersion: revA, May-2003; PackageReference: SDC10A; Publisher: Altium Limited; PackageDescription: LLP, Plastic, Dual, 4 x 4 x 0.8mm Body, 10 Lead, 0.8mm Pitch, No Pullback; RoHS: Y; PinCount: 10; DigiKeyPartNumber: LM5104SDCT-ND; ComponentLink1Description: LM5104 Datasheet; ComponentLink1URL: http://www.national.com/ds/LM/LM5104.pdf; ComponentLink2Description: LM5104 Web Page; ComponentLink2URL: http://www.national.com/pf/LM/LM5104.html; ComponentLink3Description: SDC10A Package Page; ComponentLink3URL: http://www.national.com/packaging/folders/sdc10a.html
footprint SDC10A (SON, 10-Leads, Body 4x4 mm, Pitch 0.8mm, NSC Recommended)
pins: 1 VDD (power), 2 HB (in), 3 HO (out), 4 HS (in), 5 NC, 6 NC, 7 RT (in), 8 IN (in), 9 VSS (power), 10 LO (out), 11 EP (power)

## LM5105SD
designator U?
100V Half Bridge Gate Driver with Programmable Dead-Time; PartNumber: LM5105SD; Manufacturer: National Semiconductor; CompType: MiscPower; PackageTopMarking: NS*UZXYTT*L5105SD; PowerWise: N; FirstPublished: 4-Dec-2008; DatasheetVersion: Feb-2006; PackageVersion: revA, May-2003; PackageReference: SDC10A; Publisher: Altium Limited; PackageDescription: LLP, Plastic, Dual, 4 x 4 x 0.8mm Body, 10 Lead, 0.8mm Pitch, No Pullback; RoHS: O; PinCount: 10; DigiKeyPartNumber: LM5105SDCT-ND; ComponentLink1Description: LM5105 Datasheet; ComponentLink1URL: http://www.national.com/ds/LM/LM5105.pdf; ComponentLink2Description: LM5105 Web Page; ComponentLink2URL: http://www.national.com/pf/LM/LM5105.html; ComponentLink3Description: SDC10A Package Page; ComponentLink3URL: http://www.national.com/packaging/folders/sdc10a.html
footprint SDC10A (SON, 10-Leads, Body 4x4 mm, Pitch 0.8mm, NSC Recommended)
pins: 1 VDD (power), 2 HB (in), 3 HO (out), 4 HS (in), 5 NC, 6 RDT (in), 7 EN (in), 8 IN (in), 9 VSS (power), 10 LO (out), 11 EP (power)

## LM5106MM
designator U?
100V Half Bridge Gate Driver with Programmable Dead-Time; PartNumber: LM5106MM; Manufacturer: National Semiconductor; CompType: MiscPower; PackageTopMarking: ZXTT*5106; PowerWise: N; FirstPublished: 4-Dec-2008; DatasheetVersion: Jun-2006; PackageVersion: revB, Jul-2003; PackageReference: MUB10A; Publisher: Altium Limited; PackageDescription: Mini-SO, Molded, .118 x .118 x .034in Body, 10 Lead, .0197in Pitch; RoHS: Y; PinCount: 10; DigiKeyPartNumber: LM5106MMCT-ND; Code_JEDEC: MO-187-BA; ComponentLink1Description: LM5106 Datasheet; ComponentLink1URL: http://www.national.com/ds/LM/LM5106.pdf; ComponentLink2Description: LM5106 Web Page; ComponentLink2URL: http://www.national.com/pf/LM/LM5106.html; ComponentLink3Description: MUB10A Package Page; ComponentLink3URL: http://www.national.com/packaging/folders/mub10a.html
footprint MUB10A_N (TSSOP, 10-Leads, Body 3x3mm, Pitch 0.5mm, IPC Medium Density)
footprint MUB10A_L (TSSOP, 10-Leads, Body 3x3mm, Pitch 0.5mm, IPC High Density)
footprint MUB10A_M (TSSOP, 10-Leads, Body 3x3mm, Pitch 0.5mm, IPC Low Density)
pins: 1 VDD (power), 2 HB (in), 3 HO (out), 4 HS (in), 5 NC, 6 RDT (in), 7 EN (in), 8 IN (in), 9 VSS (power), 10 LO (out)

## LM5106SD
designator U?
100V Half Bridge Gate Driver with Programmable Dead-Time; PartNumber: LM5106SD; Manufacturer: National Semiconductor; CompType: MiscPower; PackageTopMarking: NS*UZXYTT*L5106SD; PowerWise: N; FirstPublished: 4-Dec-2008; DatasheetVersion: Jun-2006; PackageVersion: revA, May-2003; PackageReference: SDC10A; Publisher: Altium Limited; PackageDescription: LLP, Plastic, Dual, 4 x 4 x 0.8mm Body, 10 Lead, 0.8mm Pitch, No Pullback; RoHS: Y; PinCount: 10; DigiKeyPartNumber: LM5106SDCT-ND; ComponentLink1Description: LM5106 Datasheet; ComponentLink1URL: http://www.national.com/ds/LM/LM5106.pdf; ComponentLink2Description: LM5106 Web Page; ComponentLink2URL: http://www.national.com/pf/LM/LM5106.html; ComponentLink3Description: SDC10A Package Page; ComponentLink3URL: http://www.national.com/packaging/folders/sdc10a.html
footprint SDC10A (SON, 10-Leads, Body 4x4 mm, Pitch 0.8mm, NSC Recommended)
pins: 1 VDD (power), 2 HB (in), 3 HO (out), 4 HS (in), 5 NC, 6 RDT (in), 7 EN (in), 8 IN (in), 9 VSS (power), 10 LO (out), 11 EP (power)

## LM5107MA
designator U?
100V / 1.4A Peak Half Bridge Gate Driver; PartNumber: LM5107MA; Manufacturer: National Semiconductor; CompType: MiscPower; PackageTopMarking: NSZXTT*L5107*MA; PowerWise: N; FirstPublished: 4-Dec-2008; DatasheetVersion: Mar-2005; PackageVersion: revL, Sep-2006; PackageReference: M08A; Publisher: Altium Limited; PackageDescription: SOIC Narrow, 4.9 x 3.9 x 1.45mm, 8 Lead, 1.27mm Pitch; RoHS: Y; PinCount: 8; DigiKeyPartNumber: LM5107MA-ND; Code_JEDEC: MS-012-AA; Code_IPC: SOIC127P600-8; ComponentLink1Description: LM5107 Datasheet; ComponentLink1URL: http://www.national.com/ds/LM/LM5107.pdf; ComponentLink2Description: LM5107 Web Page; ComponentLink2URL: http://www.national.com/pf/LM/LM5107.html; ComponentLink3Description: M08A Package Page; ComponentLink3URL: http://www.national.com/packaging/folders/m08a.html
footprint M08A_N (SOIC, 8-Leads, Body 4.9x3.9mm, Pitch 1.27mm, IPC Medium Density)
footprint M08A_L (SOIC, 8-Leads, Body 4.9x3.9mm, Pitch 1.27mm, IPC High Density)
footprint M08A_M (SOIC, 8-Leads, Body 4.9x3.9mm, Pitch 1.27mm, IPC Low Density)
pins: 1 VDD (power), 2 HI (in), 3 LI (in), 4 VSS (power), 5 LO (out), 6 HS (in), 7 HO (out), 8 HB (in)

## LM5107SD
designator U?
100V / 1.4A Peak Half Bridge Gate Driver; PartNumber: LM5107SD; Manufacturer: National Semiconductor; CompType: MiscPower; PackageTopMarking: NS*UZXYTT*L5107SD; PowerWise: N; FirstPublished: 4-Dec-2008; DatasheetVersion: Mar-2005; PackageVersion: revA, Jun-2003; PackageReference: SDC08A; Publisher: Altium Limited; PackageDescription: LLP, Plastic, Dual, 4 x 4 x 0.8mm Body, 8 Lead, 0.8mm Pitch, No Pullback; RoHS: Y; PinCount: 8; DigiKeyPartNumber: LM5107SDCT-ND; ComponentLink1Description: LM5107 Datasheet; ComponentLink1URL: http://www.national.com/ds/LM/LM5107.pdf; ComponentLink2Description: LM5107 Web Page; ComponentLink2URL: http://www.national.com/pf/LM/LM5107.html; ComponentLink3Description: SDC08A Package Page; ComponentLink3URL: http://www.national.com/packaging/folders/sdc08a.html
footprint SDC08A (SON, 8-Leads, Body 4x4mm, Pitch 0.8mm, NSC Recommended)
pins: 1 VDD (power), 2 HI (in), 3 LI (in), 4 VSS (power), 5 LO (out), 6 HS (in), 7 HO (out), 8 HB (in), 9 EP (power)

## LM5109AMA
designator U?
High Voltage 1A Peak Half Bridge Gate Driver; PartNumber: LM5109AMA; Manufacturer: National Semiconductor; CompType: MiscPower; PackageTopMarking: NSZXTT*L5109*AMA; PowerWise: N; FirstPublished: 4-Dec-2008; DatasheetVersion: Apr-2006; PackageVersion: revL, Sep-2006; PackageReference: M08A; Publisher: Altium Limited; PackageDescription: SOIC Narrow, 4.9 x 3.9 x 1.45mm, 8 Lead, 1.27mm Pitch; RoHS: Y; PinCount: 8; DigiKeyPartNumber: LM5109AMA-ND; Code_JEDEC: MS-012-AA; Code_IPC: SOIC127P600-8; ComponentLink1Description: LM5109A Datasheet; ComponentLink1URL: http://www.national.com/ds/LM/LM5109A.pdf; ComponentLink2Description: LM5109A Web Page; ComponentLink2URL: http://www.national.com/pf/LM/LM5109A.html; ComponentLink3Description: M08A Package Page; ComponentLink3URL: http://www.national.com/packaging/folders/m08a.html
footprint M08A_N (SOIC, 8-Leads, Body 4.9x3.9mm, Pitch 1.27mm, IPC Medium Density)
footprint M08A_L (SOIC, 8-Leads, Body 4.9x3.9mm, Pitch 1.27mm, IPC High Density)
footprint M08A_M (SOIC, 8-Leads, Body 4.9x3.9mm, Pitch 1.27mm, IPC Low Density)
pins: 1 VDD (power), 2 HI (in), 3 LI (in), 4 VSS (power), 5 LO (out), 6 HS (in), 7 HO (out), 8 HB (in)

## LM5109ASD
designator U?
High Voltage 1A Peak Half Bridge Gate Driver; PartNumber: LM5109ASD; Manufacturer: National Semiconductor; CompType: MiscPower; PackageTopMarking: NS*UZXYTT*5109ASD; PowerWise: N; FirstPublished: 4-Dec-2008; DatasheetVersion: Apr-2006; PackageVersion: revA, Jun-2003; PackageReference: SDC08A; Publisher: Altium Limited; PackageDescription: LLP, Plastic, Dual, 4 x 4 x 0.8mm Body, 8 Lead, 0.8mm Pitch, No Pullback; RoHS: Y; PinCount: 8; DigiKeyPartNumber: LM5109ASDCT-ND; ComponentLink1Description: LM5109A Datasheet; ComponentLink1URL: http://www.national.com/ds/LM/LM5109A.pdf; ComponentLink2Description: LM5109A Web Page; ComponentLink2URL: http://www.national.com/pf/LM/LM5109A.html; ComponentLink3Description: SDC08A Package Page; ComponentLink3URL: http://www.national.com/packaging/folders/sdc08a.html
footprint SDC08A (SON, 8-Leads, Body 4x4mm, Pitch 0.8mm, NSC Recommended)
pins: 1 VDD (power), 2 HI (in), 3 LI (in), 4 VSS (power), 5 LO (out), 6 HS (in), 7 HO (out), 8 HB (in), 9 EP (power)

## LM5109BMA
designator U?
High Voltage 1A Peak Half Bridge Gate Driver; PartNumber: LM5109BMA; Manufacturer: National Semiconductor; CompType: MiscPower; PackageTopMarking: NSZXTT*L5109*BMA; PowerWise: N; FirstPublished: 4-Dec-2008; DatasheetVersion: Feb-2007; PackageVersion: revL, Sep-2006; PackageReference: M08A; Publisher: Altium Limited; PackageDescription: SOIC Narrow, 4.9 x 3.9 x 1.45mm, 8 Lead, 1.27mm Pitch; RoHS: Y; PinCount: 8; DigiKeyPartNumber: LM5109BMA-ND; Code_JEDEC: MS-012-AA; Code_IPC: SOIC127P600-8; ComponentLink1Description: LM5109B Datasheet; ComponentLink1URL: http://www.national.com/ds/LM/LM5109B.pdf; ComponentLink2Description: LM5109B Web Page; ComponentLink2URL: http://www.national.com/pf/LM/LM5109B.html; ComponentLink3Description: M08A Package Page; ComponentLink3URL: http://www.national.com/packaging/folders/m08a.html
footprint M08A_N (SOIC, 8-Leads, Body 4.9x3.9mm, Pitch 1.27mm, IPC Medium Density)
footprint M08A_L (SOIC, 8-Leads, Body 4.9x3.9mm, Pitch 1.27mm, IPC High Density)
footprint M08A_M (SOIC, 8-Leads, Body 4.9x3.9mm, Pitch 1.27mm, IPC Low Density)
pins: 1 VDD (power), 2 HI (in), 3 LI (in), 4 VSS (power), 5 LO (out), 6 HS (in), 7 HO (out), 8 HB (in)

## LM5109BSD
designator U?
High Voltage 1A Peak Half Bridge Gate Driver; PartNumber: LM5109BSD; Manufacturer: National Semiconductor; CompType: MiscPower; PackageTopMarking: NS*UZXYTT*5109BSD; PowerWise: N; FirstPublished: 4-Dec-2008; DatasheetVersion: Feb-2007; PackageVersion: revA, Jun-2003; PackageReference: SDC08A; Publisher: Altium Limited; PackageDescription: LLP, Plastic, Dual, 4 x 4 x 0.8mm Body, 8 Lead, 0.8mm Pitch, No Pullback; RoHS: Y; PinCount: 8; DigiKeyPartNumber: LM5109BSDCT-ND; ComponentLink1Description: LM5109B Datasheet; ComponentLink1URL: http://www.national.com/ds/LM/LM5109B.pdf; ComponentLink2Description: LM5109B Web Page; ComponentLink2URL: http://www.national.com/pf/LM/LM5109B.html; ComponentLink3Description: SDC08A Package Page; ComponentLink3URL: http://www.national.com/packaging/folders/sdc08a.html
footprint SDC08A (SON, 8-Leads, Body 4x4mm, Pitch 0.8mm, NSC Recommended)
pins: 1 VDD (power), 2 HI (in), 3 LI (in), 4 VSS (power), 5 LO (out), 6 HS (in), 7 HO (out), 8 HB (in), 9 EP (power)

## LM8322JGR8
designator U?
Mobile I/O Companion Supporting Key-Scan, I/O Expansion, PWM, and ACCESS.bus Host Interface; PartNumber: LM8322JGR8; Manufacturer: National Semiconductor; CompType: MiscPower; PackageTopMarking: NS*UZXYTT*LM8322; PowerWise: N; FirstPublished: 4-Dec-2008; DatasheetVersion: May-2007; PackageVersion: revA, Mar-2004; PackageReference: GRA36A; Publisher: Altium Limited; PackageDescription: Micro-Array, 3.5 x 3.5 x 1mm, 36 Ball, 0.5mm Pitch; RoHS: Y; PinCount: 36; DigiKeyPartNumber: LM8322JGR8CT-ND; ComponentLink1Description: LM8322 Datasheet; ComponentLink1URL: http://www.national.com/ds/LM/LM8322.pdf; ComponentLink2Description: LM8322 Web Page; ComponentLink2URL: http://www.national.com/pf/LM/LM8322.html; ComponentLink3Description: GRA36A Package Page; ComponentLink3URL: http://www.national.com/packaging/folders/gra36a.html
footprint GRA36A (BGA, 36-Leads, Body 3.5x3.5mm, Pitch 0.5mm, NSC Recommended)
pins: A1 KP-Y5/GPIO_06 (io) "Keyboard scanning output 5, General-purpose I/O port 6", A2 KP-X4/GPIO_12 (io) "Wake-up input/Keyboard scanning input 4, General-purpose I/O port 12", A3 KP-X6/GPIO_10 (io) "Wake-up input/Keyboard scanning input 6, General-purpose I/O port 10", A4 VCC (power), A5 KP-X1 (in) "Wake-up input/Keyboard scanning input 1", A6 KP-X0 (in) "Wake-up input/Keyboard scanning input 0", B1 KP-Y6/GPIO_05 (io) "Keyboard scanning output 6, General-purpose I/O port 5", B2 KP-Y4/GPIO_07 (io) "Keyboard scanning output 4, General-purpose I/O port 7", B3 KP-X5/GPIO_11 (io) "Wake-up input/Keyboard scanning input 5, General-purpose I/O port 11", B4 KP-X7/GPIO_09 (io) "Wake-up input/Keyboard scanning input 7, General-purpose I/O port 9", B5 KP-Y3/GPIO_08 (io) "Keyboard scanning output 3, General-purpose I/O port 8", B6 KP-Y2 (out) "Keyboard scanning output 2", C1 ~{RESET} (in) "Reset Input", C2 KP-Y7/GPIO_04 (io) "Keyboard scanning output 7, General-purpose I/O port 4", C3 GND (power) "Ground", C4 GND (power) "Ground", C5 KP-Y1 (out) "Keyboard scanning output 1", C6 KP_Y0 (out) "Keyboard scanning output 0", D1 XTAL_OUT (in) "32.768 kHz crystal output", D2 SLOWCLK/XTAL_IN (in) "32.768 kHz clock, 32.768 kHz crystal input", D3 GND (power) "Ground", D4 GND (power) "Ground", D5 KP-Y9/MUX2_IN1/GPIO_02 (io) "Keyboard scanning output 9, Multiplexer 2 input 1, General-purpose I/O port 2", D6 CONFIG_1/GPIO_14 (io) "Slave address select input 1, General-purpose I/O port 14", E1 ACB_SCL (io) "ACCESS.bus clock signal", E2 ACB_SDA (io) "ACCESS.bus data signal", E3 KP-Y8/SLOWCLKOUT/GPIO_03 (io) "Keyboard scanning output 8, 32.768 kHz clock output, General-purpose I/O port 3", E4 PWM_0/MUX_IN1 (io) "Pulse-width modulated output 0, Multiplexer 1 input 1", E5 PWM_2/MUX1_OUT/CONFIG_2/GPIO_15 (io) "Pulse-width modulated output 2, Multiplexer 1 output, Slave address select input 2, General-purpose I/O port 15", E6 KP-Y10/MUX2_IN2/GPIO_01 (io) "Keyboard scanning output 10, Multiplexer 2 input 2, General-purpose I/O port 1", F1 KP-X2 (in) "Wake-up input/Keyboard scanning input 2", F2 KP-X3/GPIO_13 (io) "Wake-up input/Keyboard scanning input 3, General-purpose I/O port 13", F3 ~{IRQ} (out) "Interrupt request output", F4 VCC (power), F5 PWM_1/MUX_IN2 (io) "Pulse-width modulated output 1, Multiplexer 1 input 2", F6 KP-Y11/MUX2_OUT/GPIO_00 (io) "Keyboard scanning output 11, Multiplexer 2 output, General-purpose I/O port 0"

## LM8333FLQ8X
designator U?
Mobile I/O Companion Supporting Key-Scan, I/O Expansion, PWM, and ACCESS.bus Host Interface; PartNumber: LM8333FLQ8X; Manufacturer: National Semiconductor; CompType: MiscPower; PackageTopMarking: NS*UZXYTT*LM8333F; PowerWise: N; FirstPublished: 4-Dec-2008; DatasheetVersion: Aug-2007; PackageVersion: revA, Feb-2001; PackageReference: LQA32A; Publisher: Altium Limited; PackageDescription: LLP, Plastic, Quad, 6 x 6 x 0.8mm Body, 32 Lead, 0.5mm Pitch; RoHS: Y; PinCount: 32; DigiKeyPartNumber: LM8333FLQ8X-ND; ComponentLink1Description: LM8333 Datasheet; ComponentLink1URL: http://www.national.com/ds/LM/LM8333.pdf; ComponentLink2Description: LM8333 Web Page; ComponentLink2URL: http://www.national.com/pf/LM/LM8333.html; ComponentLink3Description: LQA32A Package Page; ComponentLink3URL: http://www.national.com/packaging/folders/lqa32a.html
footprint LQA32A (PQFN, 32-Leads, Body 6x6mm, Pitch 0.5mm, NSC Recommended)
pins: 1 WAKE_IN6 (in) "Wake-up input/Keyboard scanning input 6", 2 WAKE_IN7 (in) "Wake-up input/Keyboard scanning input 7", 3 K_OUT4 (out) "Keyboard scanning output 4", 4 K_OUT5 (out) "Keyboard scanning output 5", 5 K_OUT6 (out) "Keyboard scanning output 6", 6 K_OUT7 (out) "Keyboard scanning output 7", 7 GEN_IO_2 (io) "General-purpose I/O 2", 8 GEN_IO_3 (io) "General-purpose I/O 3", 9 GND (power) "Ground", 10 GND (power) "Ground", 11 CLK_IN (in) "Clock input", 12 GEN_IO_0 (io) "General-purpose I/O 0", 13 GEN_IO_1 (io) "General-purpose I/O 1", 14 GND (power) "Ground", 15 VCC (power) "Vcc", 16 PWM (out) "Pulse-width modulated output", 17 ~{IRQ} (out) "Interrupt request output", 18 ~{WD_OUT} (out) "Watchdog timer output", 19 NC "No connect", 20 ~{RESET} (in) "Reset input", 21 K_OUT0 (out) "Keyboard scanning output 0", 22 K_OUT1 (out) "Keyboard scanning output 1", 23 K_OUT2 (out) "Keyboard scanning output 2", 24 K_OUT3 (out) "Keyboard scanning output 3", 25 SDA (io) "ACCESS.bus data signal", 26 SCL (in) "ACCESS.bus clock signal", 27 WAKE_IN2 (in) "Wake-up input/Keyboard scanning input 2", 28 WAKE_IN3 (in) "Wake-up input/Keyboard scanning input 3", 29 WAKE_IN0 (in) "Wake-up input/Keyboard scanning input 0", 30 WAKE_IN1 (in) "Wake-up input/Keyboard scanning input 1", 31 WAKE_IN4 (in) "Wake-up input/Keyboard scanning input 4", 32 WAKE_IN5 (in) "Wake-up input/Keyboard scanning input 5", 33 DAP (power) "Ground"